# EAGLE library part 693120015011 (library InputOutputIO (rev18b))
WR-CRD COMPACT FLASH CARD CONNECTOR HEADER 50PINS=>Code : Con_I-O_COM_CRD_Compact-Flash_693120015011 <http://katalog.we-online.de/media/images/eican/Con_I-O_COM_CRD_Compact-Flash_693120015011_pf2.jpg> Details see: http://katalog.we-online.de/en/em/CRD_COMPACT_FLASH_HEADER_50_PINS/693120015011 Created 2014-07-09, Karrer Zheng 2014 (C) Würth Elektronik
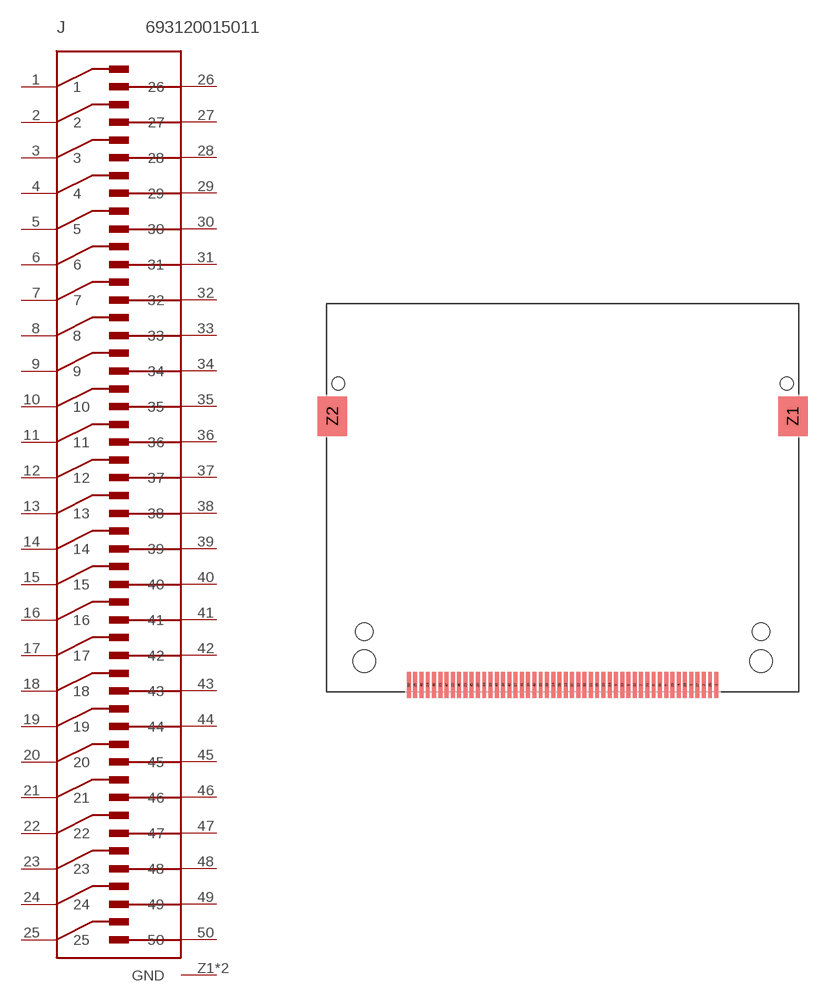
[diagram p93: symbol with the pads of 693120015011; footprint 693120015011]

Designator prefix J

## 693120015011  [693120015011]
1  1
2  2
3  3
4  4
5  5
6  6
7  7
8  8
9  9
10  10
11  11
12  12
13  13
14  14
15  15
16  16
17  17
18  18
19  19
20  20
21  21
22  22
23  23
24  24
25  25
26  26
27  27
28  28
29  29
30  30
31  31
32  32
33  33
34  34
35  35
36  36
37  37
38  38
39  39
40  40
41  41
42  42
43  43
44  44
45  45
46  46
47  47
48  48
49  49
50  50
Z1  GND
Z2  GND

## Footprint 693120015011 (pad centres in mm)
WR-CRD COMPACT FLASH CARD CONNECTOR HEADER 50PINS
smd 0.4 x 2.6: 1 15.557,0; 2 14.287,0; 3 13.018,0; 4 11.748,0; 5 10.477,0; 6 9.207,0; 7 7.938,0; 8 6.668,0; 9 5.397,0; 10 4.128,0; 11 2.857,0; 12 1.587,0; 13 0.318,0; 14 -0.953,0; 15 -2.223,0; 16 -3.493,0; 17 -4.763,0; 18 -6.032,0; 19 -7.303,0; 20 -8.572,0; 21 -9.842,0; 22 -11.113,0; 23 -12.383,0; 24 -13.652,0; 25 -14.922,0; 26 14.922,0; 27 13.652,0; 28 12.383,0; 29 11.113,0; 30 9.842,0; 31 8.572,0; 32 7.303,0; 33 6.032,0; 34 4.763,0; 35 3.493,0; 36 2.223,0; 37 0.953,0; 38 -0.318,0; 39 -1.587,0; 40 -2.857,0; 41 -4.128,0; 42 -5.397,0; 43 -6.668,0; 44 -7.938,0; 45 -9.207,0; 46 -10.477,0; 47 -11.748,0; 48 -13.018,0; 49 -14.287,0; 50 -15.557,0
smd 3 x 4: Z1 23.3,27.2; Z2 -23.297,27.2
hole 2.3 at -20.08,2.4
hole 1.8 at -20.08,5.4
hole 2.3 at 20.08,2.4
hole 1.8 at 20.08,5.4
hole 1.3 at -22.7,30.5
hole 1.3 at 22.7,30.5